# EAGLE library part ACT4088US-T (library ACT4088US-T)
IC REG BUCK ADJ 1.5A SOT23-6 Source: Datasheet <https://active-semi.com/wp-content/uploads/ACT4088_Datasheet.pdf>
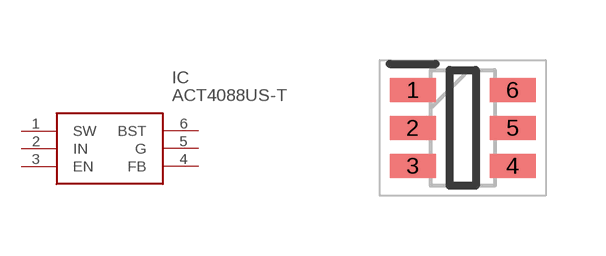
[diagram p0: symbol with the pads of SOT95P280X145-6N; footprint SOT95P280X145-6N]

Designator prefix IC

## ACT4088US-T (Description: IC REG BUCK ADJ 1.5A SOT23-6; Height: 1.45mm; Manufacturer_Name: Qorvo; Manufacturer_Part_Number: ACT4088US-T; Mouser_Part_Number: 107-ACT4088US-T; Mouser_Price-Stock: https://www.mouser.co.uk/ProductDetail/Qorvo/ACT4088US-T?qs=QQJxVsr8EGZznLQLhk8tEQ%3D%3D)  [SOT95P280X145-6N]
1  SW
2  IN
3  EN
4  FB
5  G
6  BST

## Footprint SOT95P280X145-6N (pad centres in mm)
SOT23-6 PACKAGE OUTLINE AND DIMENSIONS
smd 1.15 x 0.6: 1 -1.25,0.95; 2 -1.25,0; 3 -1.25,-0.95; 4 1.25,-0.95; 5 1.25,0; 6 1.25,0.95